# Altium footprint library CONN JACK STEREO 3.5MM R_A.PcbLib: 1 footprints
Each footprint in its own frame and in the unit in brackets; x right, y up, seen from the top. Pads: shape width x height; smd on the part's side, far side on the other; paste and mask are expansions set on the pad; w line width, h text height; cw(c..) or ccw(c..) is an arc to the next point about the centre after c.
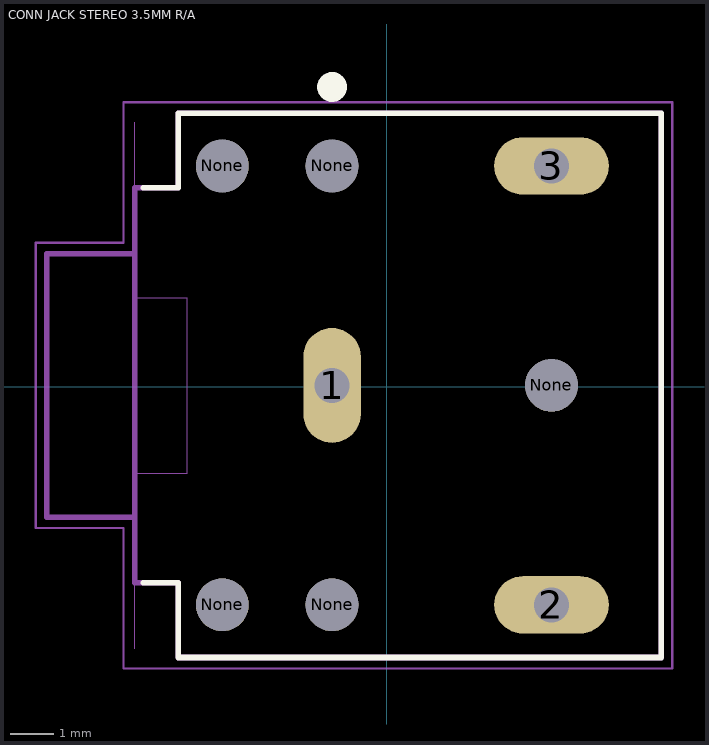
[diagram p0: the footprint, top view; thin cyan lines are the x and y axes]

## CONN JACK STEREO 3.5MM R/A [mm]
pads (8):
  oval 1.308x2.616 hole 0.8: 1(-1.243,0.027)
  oval 2.616x1.308 hole 0.8: 2(3.757,-4.973) 3(3.757,5.027)
  round 1.2 hole 1.2 unplated: None(-3.743,-4.973) None(-3.743,5.027) None(-1.243,-4.973) None(-1.243,5.027) None(3.757,0.027)
Top Overlay:
  circle w0.34: c-1.243,6.827 r0.17
  lines w0.127: -5.543,-4.473 -4.743,-4.473 -4.743,-6.173 6.257,-6.173 6.257,6.227 -4.743,6.227 -4.743,4.527 -5.543,4.527
Mechanical 1:
  lines w0: -5.743,-5.973 -5.743,-1.973 -4.543,-1.973 -4.543,2.027 -5.743,2.027 -5.743,6.027 ; -1.643,-0.723 -1.643,0.777 -0.843,0.777 -0.843,-0.723 -1.643,-0.723 ; 3.007,-5.373 4.507,-5.373 4.507,-4.573 3.007,-4.573 3.007,-5.373 ; 3.007,4.627 4.507,4.627 4.507,5.427 3.007,5.427 3.007,4.627
Mechanical 4:
  lines w0.127: -7.743,-2.973 -5.743,-2.973 ; -7.743,-2.973 -7.743,3.027 ; -7.743,-2.973 -5.743,-2.973 ; -7.743,-2.973 -7.743,3.027 ; -7.743,3.027 -5.743,3.027 ; -7.743,3.027 -5.743,3.027 ; -5.743,-4.473 -4.743,-4.473 ; -5.743,-4.473 -5.743,-2.973 ; -5.743,-4.473 -4.743,-4.473 ; -5.743,-4.473 -5.743,-2.973 ; -5.743,-2.973 -5.743,3.027 ; -5.743,-2.973 -5.743,3.027 ; -5.743,3.027 -5.743,4.527 ; -5.743,3.027 -5.743,4.527 ; -5.743,4.527 -4.743,4.527 ; -5.743,4.527 -4.743,4.527 ; -4.743,-6.173 -4.743,-4.473 ; -4.743,-6.173 6.257,-6.173 ; -4.743,-6.173 -4.743,-4.473 ; -4.743,-6.173 6.257,-6.173 ; -4.743,4.527 -4.743,6.227 ; -4.743,4.527 -4.743,6.227 ; -4.743,6.227 6.257,6.227 ; -4.743,6.227 6.257,6.227 ; 6.257,-6.173 6.257,6.227 ; 6.257,-6.173 6.257,6.227
Mechanical 15:
  lines w0.05: -7.993,-3.223 -7.993,3.277 -5.993,3.277 -5.993,6.477 6.507,6.477 6.507,-6.423 -5.993,-6.423 -5.993,-3.223 -7.993,-3.223